# Altium schematic symbol library CRCW060322R0FKEA.SchLib: 2 symbols
Pins are listed as number, name and electrical type; pins without a type are passive.

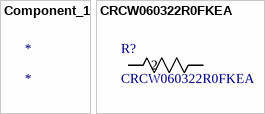
[diagram p0: symbols Component_1 to CRCW060322R0FKEA]

## Component_1
designator *

## CRCW060322R0FKEA
designator R?
No Description Available; Mfr_Name: Vishay; Copyright: Copyright (C) 2022 Ultra Librarian. All rights reserved.; Manufacturer_Part_Number: CRCW060322R0FKEA; Digi-Key_Part_Number_1: 541-22.0HCT-ND; Digi-Key_Part_Number_2: 541-22.0HDKR-ND; Digi-Key_Part_Number_3: 541-22.0HTR-ND; RefDes: RefDes; Type: DEV
footprint RES_CRCW_0603
pins: 1, 2